# Altium schematic symbol library Fsociety_Keyboard.SCHLIB: 24 symbols
Pins are listed as number, name and electrical type; pins without a type are passive.

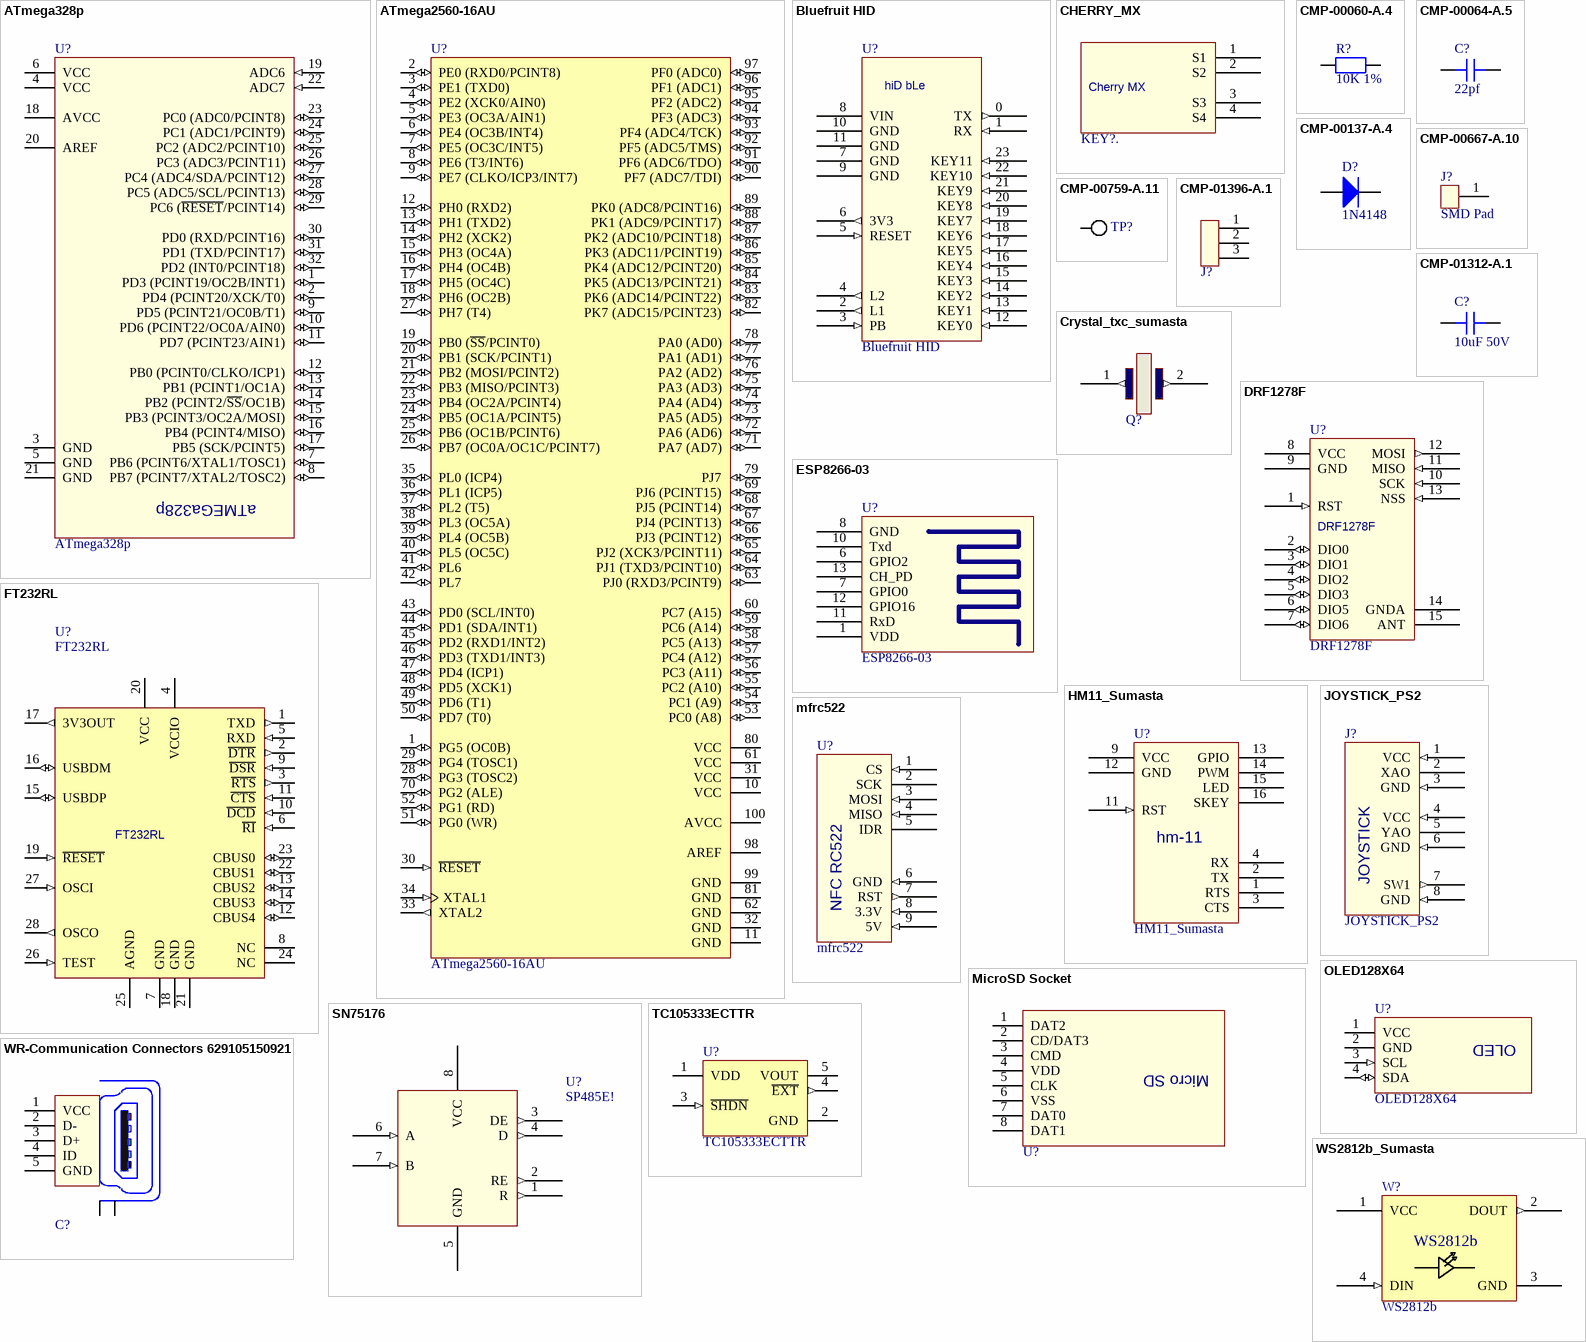
[diagram p0: symbols ATmega328p to WS2812b_Sumasta]

## ATmega328p
designator U?
footprint TQFP32
pins: 1 PD3 (PCINT19/OC2B/INT1) (io), 2 PD4 (PCINT20/XCK/T0) (io), 3 GND (power), 4 VCC (power), 5 GND (power), 6 VCC (power), 7 PB6 (PCINT6/XTAL1/TOSC1) (io), 8 PB7 (PCINT7/XTAL2/TOSC2) (io), 9 PD5 (PCINT21/OC0B/T1) (io), 10 PD6 (PCINT22/OC0A/AIN0) (io), 11 PD7 (PCINT23/AIN1) (io), 12 PB0 (PCINT0/CLKO/ICP1) (io), 13 PB1 (PCINT1/OC1A) (io), 14 PB2 (PCINT2/~{SS}/OC1B) (io), 15 PB3 (PCINT3/OC2A/MOSI) (io), 16 PB4 (PCINT4/MISO) (io), 17 PB5 (SCK/PCINT5) (io), 18 AVCC (power), 19 ADC6 (in), 20 AREF, 21 GND (power), 22 ADC7 (in), 23 PC0 (ADC0/PCINT8) (io), 24 PC1 (ADC1/PCINT9) (io), 25 PC2 (ADC2/PCINT10) (io), 26 PC3 (ADC3/PCINT11) (io), 27 PC4 (ADC4/SDA/PCINT12) (io), 28 PC5 (ADC5/SCL/PCINT13) (io), 29 PC6 (~{RESET}/PCINT14) (io), 30 PD0 (RXD/PCINT16) (io), 31 PD1 (TXD/PCINT17) (io), 32 PD2 (INT0/PCINT18) (io)
text: aTMEGa328p

## ATmega2560-16AU
designator U?
8-bit AVR Microcontroller, 4.5-5.5V, 16MHz, 256KB Flash, 4KB EEPROM, 8KB SRAM, 86 GPIO pins, 100-pin TQFP, Industrial Grade (-40°C to 85°C), Pb-Free; DatasheetVersion: revN, May-2011; PackageVersion: revD, Oct-2010; PackageReference: 100A; PackageDescription: 100-Pin Thin Profile Plastic Quad Flat Pack (TQFP), 14 x 14 x 1.0 mm Body, 0.5 mm Pitch; Code_JEDEC: MS-026-AED; ComponentLink1Description: Manufacturer URL; ComponentLink1URL: http://www.atmel.com/; ComponentLink2Description: ATmega640/1280/1281/2560/2561 Datasheet; ComponentLink2URL: http://www.atmel.com/dyn/resources/prod_documents/doc2549.pdf; ComponentLink3Description: ATmega640/1280/1281/2560/2561 Summary; ComponentLink3URL: http://www.atmel.com/dyn/resources/prod_documents/2549S.pdf
footprint 100A_N (Thin QFP, 100-Leads, Body 14x14mm, Pitch 0.5mm, IPC Medium Density)
footprint 100A_L (Thin QFP, 100-Leads, Body 14x14mm, Pitch 0.5mm, IPC High Density)
footprint 100A_M (Thin QFP, 100-Leads, Body 14x14mm, Pitch 0.5mm, IPC Low Density)
pins: 1 PG5 (OC0B) (io), 2 PE0 (RXD0/PCINT8) (io), 3 PE1 (TXD0) (io), 4 PE2 (XCK0/AIN0) (io), 5 PE3 (OC3A/AIN1) (io), 6 PE4 (OC3B/INT4) (io), 7 PE5 (OC3C/INT5) (io), 8 PE6 (T3/INT6) (io), 9 PE7 (CLKO/ICP3/INT7) (io), 10 VCC (power), 11 GND (power), 12 PH0 (RXD2) (io), 13 PH1 (TXD2) (io), 14 PH2 (XCK2) (io), 15 PH3 (OC4A) (io), 16 PH4 (OC4B) (io), 17 PH5 (OC4C) (io), 18 PH6 (OC2B) (io), 19 PB0 (~{SS}/PCINT0) (io), 20 PB1 (SCK/PCINT1) (io), 21 PB2 (MOSI/PCINT2) (io), 22 PB3 (MISO/PCINT3) (io), 23 PB4 (OC2A/PCINT4) (io), 24 PB5 (OC1A/PCINT5) (io), 25 PB6 (OC1B/PCINT6) (io), 26 PB7 (OC0A/OC1C/PCINT7) (io), 27 PH7 (T4) (io), 28 PG3 (TOSC2) (io), 29 PG4 (TOSC1) (io), 30 ~{RESET} (in), 31 VCC (power), 32 GND (power), 33 XTAL2 (out), 34 XTAL1 (in), 35 PL0 (ICP4) (io), 36 PL1 (ICP5) (io), 37 PL2 (T5) (io), 38 PL3 (OC5A) (io), 39 PL4 (OC5B) (io), 40 PL5 (OC5C) (io), 41 PL6 (io), 42 PL7 (io), 43 PD0 (SCL/INT0) (io), 44 PD1 (SDA/INT1) (io), 45 PD2 (RXD1/INT2) (io), 46 PD3 (TXD1/INT3) (io), 47 PD4 (ICP1) (io), 48 PD5 (XCK1) (io), 49 PD6 (T1) (io), 50 PD7 (T0) (io), 51 PG0 (WR) (io), 52 PG1 (RD) (io), 53 PC0 (A8) (io), 54 PC1 (A9) (io), 55 PC2 (A10) (io), 56 PC3 (A11) (io), 57 PC4 (A12) (io), 58 PC5 (A13) (io), 59 PC6 (A14) (io), 60 PC7 (A15) (io), 61 VCC (power), 62 GND (power), 63 PJ0 (RXD3/PCINT9) (io), 64 PJ1 (TXD3/PCINT10) (io), 65 PJ2 (XCK3/PCINT11) (io), 66 PJ3 (PCINT12) (io), 67 PJ4 (PCINT13) (io), 68 PJ5 (PCINT14) (io), 69 PJ6 (PCINT15) (io), 70 PG2 (ALE) (io), 71 PA7 (AD7) (io), 72 PA6 (AD6) (io), 73 PA5 (AD5) (io), 74 PA4 (AD4) (io), 75 PA3 (AD3) (io), 76 PA2 (AD2) (io), 77 PA1 (AD1) (io), 78 PA0 (AD0) (io), 79 PJ7 (io), 80 VCC (power), 81 GND (power), 82 PK7 (ADC15/PCINT23) (io), 83 PK6 (ADC14/PCINT22) (io), 84 PK5 (ADC13/PCINT21) (io), 85 PK4 (ADC12/PCINT20) (io), 86 PK3 (ADC11/PCINT19) (io), 87 PK2 (ADC10/PCINT18) (io), 88 PK1 (ADC9/PCINT17) (io), 89 PK0 (ADC8/PCINT16) (io), 90 PF7 (ADC7/TDI) (io), 91 PF6 (ADC6/TDO) (io), 92 PF5 (ADC5/TMS) (io), 93 PF4 (ADC4/TCK) (io), 94 PF3 (ADC3) (io), 95 PF2 (ADC2) (io), 96 PF1 (ADC1) (io), 97 PF0 (ADC0) (io), 98 AREF (power), 99 GND (power), 100 AVCC (power)

## Bluefruit HID
designator U?
footprint BLuefruit HID
pins: 0 TX (out), 1 RX (in), 2 L1 (out), 3 PB (in), 4 L2 (out), 5 RESET (in), 6 3V3 (out), 7 GND (power), 8 VIN (power), 9 GND (power), 10 GND (power), 11 GND (power), 12 KEY0 (in), 13 KEY1 (in), 14 KEY2 (in), 15 KEY3 (in), 16 KEY4 (in), 17 KEY5 (in), 18 KEY6 (in), 19 KEY7 (in), 20 KEY8 (in), 21 KEY9 (in), 22 KEY10 (in), 23 KEY11 (in)
text: hiD bLe

## CHERRY_MX
designator KEY?.  (value not drawn)
footprint CherryMX
pins: 1 S1, 2 S2, 3 S3, 4 S4
text: Cherry MX

## CMP-00060-A.4
designator R?, comment 10K 1%
10K  0.1W 1% 0603(1608 Metric) SMD; MaxPartNumber: 10K-0603!; Case-EIA: 0603; Case-Metric: 1608; Value: 10K Ohm; Power: 0.1W; Technology: SMT; Tolerance: 1%; FLS_PN: 10K-0603!; RENA_PN: 10K-0603!
footprint RESC1608X06_NR (Chip Resistor, 2-Leads, Body 1,6x0,8mm, IPC Medium Density)
simulation model Resistor (General Resistor)
pins: 1, 2

## CMP-00064-A.5
designator C?, comment 22pf
Capacitor 10nF X7R ±10% 50V 0603(1608) SMD; MAXPartNumber: 10N/50-0603!; Case-EIA: 0603; Case-Metric: 1608; Value: 10nF; Dielectric Characteristic: X7R; Thickness (max): 0.9mm; Tolerance: ±10%; Voltage: 50V
footprint CAPC1608X08_NR (Chip Capacitor, 2-Leads, Body 1,6x0,8mm, IPC Medium Density)
simulation model Capacitor (General Capacitor)
pins: 1, 2

## CMP-00137-A.4
designator D?, comment 1N4148
Diode 1N4148 SOD80(SMT); MAXPartNumber: 1N4148!; PartNumber: LL4148-GS18-LF; Manufacturer: Vishay; IFSM Max (A): 0.5; Packing: Tape en Reel; Type: Fast; Reverse Voltage: 100V; Forward Voltage: ? V; IF (Cont): ? A; ComponentLink1Description: Manufacturer URL; ComponentLink1URL: http://www.vishay.com/; ComponentLink2Description: Datasheet; ComponentLink2URL: http://www.vishay.com/docs/85557/ll4148.pdf; ComponentLink3Description: Package Specification; ComponentLink3URL: http://www.vishay.com/docs/85557/ll4148.pdf; Mounting Technology: Surface Mount; PackageDescription: Melf Diode; PackageReference: SOD80; RoHS: TRUE; FLS_PN: 1N4148!; RENA_PN: 1N4148!; IF (Max): ? A
footprint DIOMELF3515_NR_SOD80C (MELF Diode, 2-Leads, Body 3,5x1,5mm, IPC Medium Density)
footprint DIOMELF3515_MW_SOD80C (MELF Diode, 2-Leads, Body 3,5x1,5mm, IPC Medium Density Wave)
pins: A, C

## CMP-00667-A.10
designator J?, comment SMD Pad  (no BOM)
SMD PAD DIFFERENT SHAPES; MAXPartNumber: PAD_SMD!#; FLS_PN: PAD_SMD!#; RENA_PN: PAD_SMD!#
footprint CON_SMDPAD_5X3 (SMD PAD, 5x3mm ,IPC Medium Density)
footprint CON_SMDPAD_7X1.8 (SMD PAD, 7x1.8mm ,IPC Medium Density)
footprint CON_SMDPAD_2x1.5 (SMD PAD, 2x1.5mm, IPC Medium Density)
footprint CON_SMDPAD_2x4 (SMD PAD, 2x4mm, IPC Medium Density)
footprint CON_SMDPAD_10X5 (SMD PAD, 10x5mm ,IPC Medium Density)
pins: 1

## CMP-00759-A.11
designator TP?, comment TP  (value not drawn)  (no BOM)
TESTPOINT; FLS_PN: TP#; RENA_PN: TP#; MAXPartNumber: TP#; ComponentLink1Description: Manufacturer URL; ComponentLink2Description: Datasheet; ComponentLink3Description: Package Specification
footprint TESTPAD-2MM (TESTPAD 2mm)
footprint TESTPAD-2.5MM-TH (Through hole testpad 2.5 mm Hole 1.6 mm)
footprint TESTPAD-1MM (TESTPAD 1mm)
footprint TESTPAD-1.5MM-TH (Through hole testpad 1.5 mm Hole 0.9 mm)
footprint TESTPIN-1MM-TH-YELLOW (TESTPIN Yellow Hole 1mm)
pins: 1

## CMP-01312-A.1
designator C?, comment 10uF 50V
Capacitor 10uF X5R ±20% 50V 1206(3216) SMD; MAXPartNumber: 10U/50!; Case-Metric: 3216; Case-EIA: 1206; Value: 10uF; Thickness (max): 1.8mm; Voltage: 50V; Tolerance: ±20%; Dielectric Characteristic: X5R
footprint CAPC3216X09_NR (Chip Capacitor, 2-Leads, Body 3,2x1,6mm, IPC Medium Density)
footprint CAPC3216X09_MW (Chip Capacitor, 2-Leads, Body 3,2x1,6mm, IPC Medium Density Wave)
simulation model Capacitor (General Capacitor)
pins: 1, 2

## CMP-01396-A.1
designator J?, comment BB02-HA031-KB1-100/33/D1  (value not drawn)
Unshrouded header 3-pin right angle; FLS_PN: CON-BB02-HA031; RENA_PN: CON-BB02-HA031; MAXPartNumber: CON-BB02-HA031
footprint FCI_77315-134-03LF (FCI Unshrouded header 3-pin right angle 10mm long)
pins: 1, 2, 3

## Crystal_txc_sumasta
designator Q?  (value not drawn)
footprint Crystal_txc_sumasta
pins: 1 (out), 2 (out)

## DRF1278F
designator U?
footprint DRF1278F
pins: 1 RST (in), 2 DIO0 (io), 3 DIO1 (io), 4 DIO2 (io), 5 DIO3 (io), 6 DIO5 (io), 7 DIO6 (io), 8 VCC (power) "3.3V", 9 GND (power), 10 SCK (in), 11 MISO (in), 12 MOSI (out), 13 NSS (in), 14 GNDA (power), 15 ANT (hiz)

## ESP8266-03
designator U?
footprint ESP8266-03
pins: 1 VDD, 6 GPIO2, 7 GPIO0, 8 GND, 10 Txd, 11 RxD, 12 GPIO16, 13 CH_PD

## FT232RL
designator U?
footprint SSPO28
pins: 1 TXD (out), 2 ~{DTR} (out), 3 ~{RTS} (out), 4 VCCIO (power), 5 RXD (in), 6 ~{RI} (in), 7 GND (power), 8 NC, 9 ~{DSR} (in), 10 ~{DCD} (in), 11 ~{CTS} (in), 12 CBUS4 (io), 13 CBUS2 (io), 14 CBUS3 (io), 15 USBDP (io), 16 USBDM (io), 17 3V3OUT (out), 18 GND (power), 19 ~{RESET} (in), 20 VCC (power), 21 GND (power), 22 CBUS1 (io), 23 CBUS0 (io), 24 NC, 25 AGND (power), 26 TEST (in), 27 OSCI (in), 28 OSCO (out)

## HM11_Sumasta
designator U?
footprint HM11_Sumasta (The infamous Bluetooth low Energy 4.0 from China)
pins: 1 RTS, 2 TX, 3 CTS, 4 RX, 9 VCC (power) "3.3V", 11 RST (in), 12 GND (power), 13 GPIO, 14 PWM, 15 LED, 16 SKEY
text: hm-11

## JOYSTICK_PS2
designator J?
footprint JOYSTICK
pins: 1 VCC (in), 2 XAO, 3 GND (in), 4 VCC (in), 5 YAO, 6 GND (in), 7 SW1 (out), 8 GND (in)
text: JOYSTICK

## mfrc522
designator U?
footprint MFRC522
pins: 1 CS (in), 2 SCK, 3 MOSI (in), 4 MISO (in), 5 IDR, 6 GND (in), 7 RST (out), 8 3.3V (in), 9 5V (in)
text: NFC RC522

## MicroSD Socket
designator U?, comment Micro SD Connector - Hinge  (value not drawn)
footprint Micro SD Socket (Molex50091-0801)
pins: 1 DAT2, 2 CD/DAT3, 3 CMD, 4 VDD, 5 CLK, 6 VSS, 7 DAT0, 8 DAT1
text: Micro SD

## OLED128X64
designator U?
footprint OLED128x64
pins: 1 VCC (power), 2 GND (power), 3 SCL (in), 4 SDA (io)
text: OLED

## SN75176
designator U?, comment MAXPartNumber: SP485E!  (hidden comment: RS485 Buffer Transceiver)
PartnumMAX: SP485E!
footprint SOIC127P600-8N
pins: 1 R (out), 2 RE (out), 3 DE (out), 4 D (out), 5 GND (power), 6 A (in), 7 B (in), 8 VCC (power)

## TC105333ECTTR
designator U?
PFM/PWM Step-Down DC/DC Controller, 1A, 3.3V, 300kHz, 5-Pin SOT-23, Industrial Temperature, Tape and Reel; Manufacturer: Microchip; DatasheetVersion: revB, Feb-2003; PackageVersion: revBB, Aug-2009; PackageReference: SOT-23-CT5; PackageDescription: 5-Lead Plastic Small Outline Transistor (CT) [SOT-23]; Supplier 1: Digi-Key; Supplier Part Number 1: TC105333ECTTR-ND; Supplier 2: Newark; Supplier Part Number 2: 92C5570; Supplier 3: Mouser; Supplier Part Number 3: 579-TC105333ECTTR; Mounting Technology: Surface Mount; Code_IPC: SOT23-5; PartNumber: TC105333ECTTR; ComponentLink1Description: Manufacturer URL; ComponentLink1URL: http://www.microchip.com/; ComponentLink2Description: Datasheet; ComponentLink2URL: http://ww1.microchip.com/downloads/en/DeviceDoc/21349b.pdf; ComponentLink3Description: Package Specification; ComponentLink3URL: http://www.microchip.com/stellent/groups/techpub_sg/documents/packagingspec/en012702.pdf
footprint SOT-23-CT5_N (SOT23, 5-Leads, Body 2.9x1.6mm, Pitch 0.95mm, Lead Span 2.7mm, IPC Medium Density)
footprint SOT-23-CT5_L (SOT23, 5-Leads, Body 2.9x1.6mm, Pitch 0.95mm, Lead Span 2.7mm, IPC High Density)
footprint SOT-23-CT5_M (SOT23, 5-Leads, Body 2.9x1.6mm, Pitch 0.95mm, Lead Span 2.7mm, IPC Low Density)
pins: 1 VDD (power), 2 GND (power), 3 ~{SHDN} (in), 4 ~{EXT} (out), 5 VOUT (power)

## WR-Communication Connectors 629105150921
designator C?  (value not drawn)
WR-COM_USB_Micro Type AB_Horizontal_SMT; Manufacturer: Würth Elektronik eiSos GmbH; ComponentLink1 Description: Manufacturer; ComponentLink2 Description: Datasheet; NoPins: 5; ComponentLink1URL: http://www.we-online.de; ComponentLink2URL: http://katalog.we-online.de/em/datasheet/629105150921.pdf; Created by: Karrer Zheng; Created Date: 10/23/2014; partNo: 629105150921
footprint 629105150921 (WR-COM_USB_Micro Type AB_Horizontal_SMT Micro Type AB Horizontal SMT - with Pegs - T&R Packaging)
pins: 1 VCC, 2 D-, 3 D+, 4 ID, 5 GND, Z1 Shield, Z2 Shield

## WS2812b_Sumasta
designator W?, comment WS2812b
The Infamous Chinese Chainable RGB LED
footprint DIOC500500X250_NR (WS2812B PLCC 4, Body 5.0x5.0x.2.5mm, IPC Medium Density)
pins: 1 VCC (power), 2 DOUT (out), 3 GND (power), 4 DIN (in)